# EAGLE library part FT37_TRIFILAR_2 (library yapo)
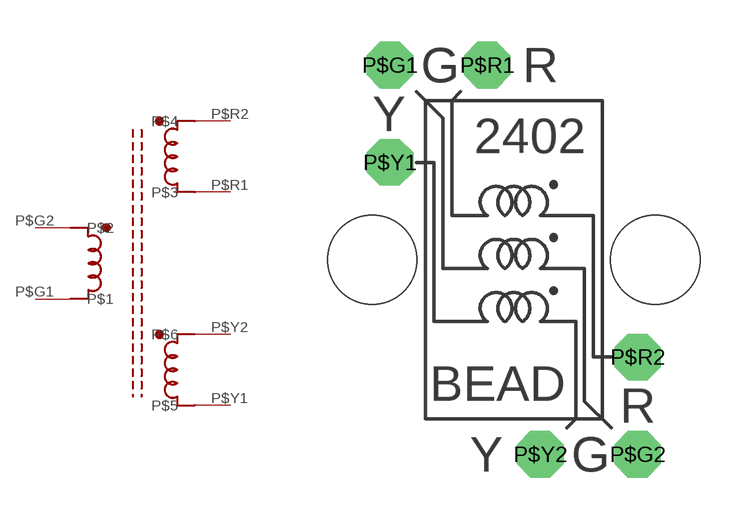
[diagram p23: symbol with the pads of FT37_TRIFILAR_VERT_NC; footprint FT37_TRIFILAR_VERT_NC]

Designator prefix -

## FT37_TRIFILAR_2  [FT37_TRIFILAR_VERT_NC]
P$G1  P$1
P$G2  P$2
P$R1  P$3
P$R2  P$4
P$Y1  P$5
P$Y2  P$6

## Footprint FT37_TRIFILAR_VERT_NC (pad centres in mm)
drill 0.8 pad 1.676 octagon: P$G1 -4.445,6.985; P$G2 4.445,-6.985; P$R1 -0.953,6.985; P$R2 4.445,-3.493; P$Y1 -4.445,3.493; P$Y2 0.953,-6.985
hole 3.2 at -5.08,0
hole 3.2 at 5.08,0